# Altium footprint library PcbLib.PcbLib: 3 footprints
Each footprint in its own frame and in the unit in brackets; x right, y up, seen from the top. Pads: shape width x height; smd on the part's side, far side on the other; paste and mask are expansions set on the pad; w line width, h text height; cw(c..) or ccw(c..) is an arc to the next point about the centre after c.
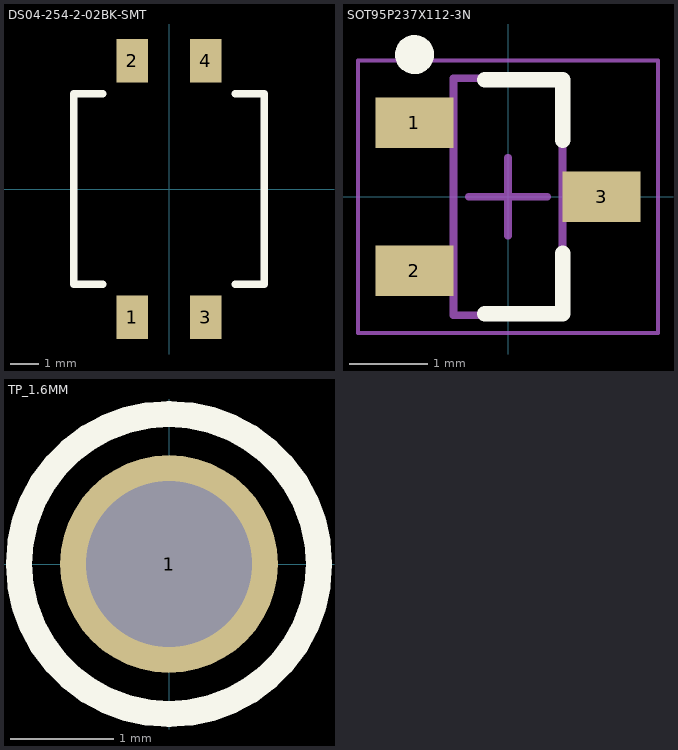
[diagram p0: the footprints below, top view; thin cyan lines are the x and y axes]

## DS04-254-2-02BK-SMT [mm] "DIP SWITCH, SPST, 2.54 PITCH, FL"
pads (4):
  rect 1.1x1.5 smd: 1(-1.27,-4.45) 2(-1.27,4.45) 3(1.27,-4.45) 4(1.27,4.45)
Top Overlay:
  lines w0.254: -2.286,-3.302 -3.302,-3.302 -3.302,3.302 -2.286,3.302 ; 2.286,-3.302 3.302,-3.302 3.302,3.302 2.286,3.302
3D body "CUI_DEVICES_DS04-254-2-02BK-SMT.step": height 3.99, standoff -0.01, extent -3.032,-4.95 3.048,4.95

## SOT95P237X112-3N [mm] "SOT23, 3-Leads, Body 2.92x2.37mm, Pitch 0.95mm, IPC Medium Density"
height 1.12
pads (3):
  rect 1x0.65 smd: 1(-1.2,0.95) 2(-1.2,-0.95) 3(1.2,0)
Top Overlay:
  circle w0.25: c-1.2,1.825 r0.125
  lines w0.2: -0.3,-1.5 0.7,-1.5 0.7,-0.725 ; -0.3,1.5 0.7,1.5 0.7,0.725
Mechanical 13:
  lines w0.1: -0.7,-1.52 0.7,-1.52 0.7,1.52 -0.7,1.52 -0.7,-1.52
Mechanical 15:
  lines w0.05: -1.925,-1.75 1.925,-1.75 1.925,1.75 -1.925,1.75 -1.925,-1.75
  lines w0.1: -0.5,0 0.5,0 ; 0,-0.5 0,0.5
3D body "2SOT95P237X112-3N.step": height 1.12, standoff 0, extent -1.32,-1.52 1.32,1.52

## TP_1.6MM [mm]
pads (1):
  round 2.1 hole 1.6: 1(0,0)
Top Overlay:
  circle w0.254: c0,0 r1.448
3D body "TestPin 1.6mm.SLDPRT": height 5, standoff -4.06, extent -1.522,-1.513 1.522,1.525